# EAGLE library part MAX882* (library max882)
MAX882 Low-Dropout, Adjustable Linear Regulators 200 mA, 5V/3.3V This is SMD library only. Created by: Razi Raslan; Ragnar Granit Institute; Tampere University of Technology.
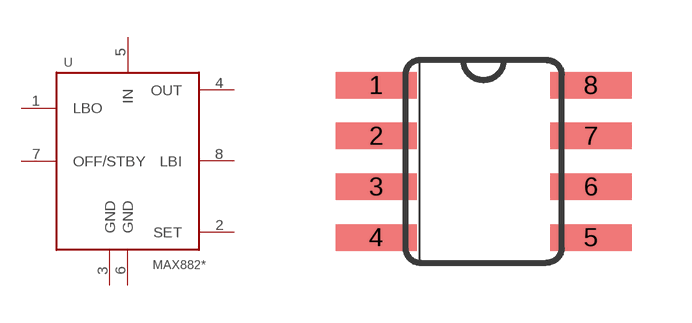
[diagram p0: symbol with the pads of 8-SO; footprint 8-SO]

Designator prefix U

## MAX882SA  [8-SO]
1  LBO  oc
2  SET  pas
3  GND  pwr
4  OUT  pwr
5  IN  pwr
6  GND  pwr
7  OFF/STBY  pas
8  LBI  pas

## Footprint 8-SO (pad centres in mm)
smd 2.032 x 0.66: 1 -2.684,1.905; 2 -2.684,0.635; 3 -2.684,-0.635; 4 -2.684,-1.905; 5 2.684,-1.905; 6 2.684,-0.635; 7 2.684,0.635; 8 2.684,1.905